# Altium footprint library LQFP-32.PcbLib: 1 footprints
Each footprint in its own frame and in the unit in brackets; x right, y up, seen from the top. Pads: shape width x height; smd on the part's side, far side on the other; paste and mask are expansions set on the pad; w line width, h text height; cw(c..) or ccw(c..) is an arc to the next point about the centre after c.
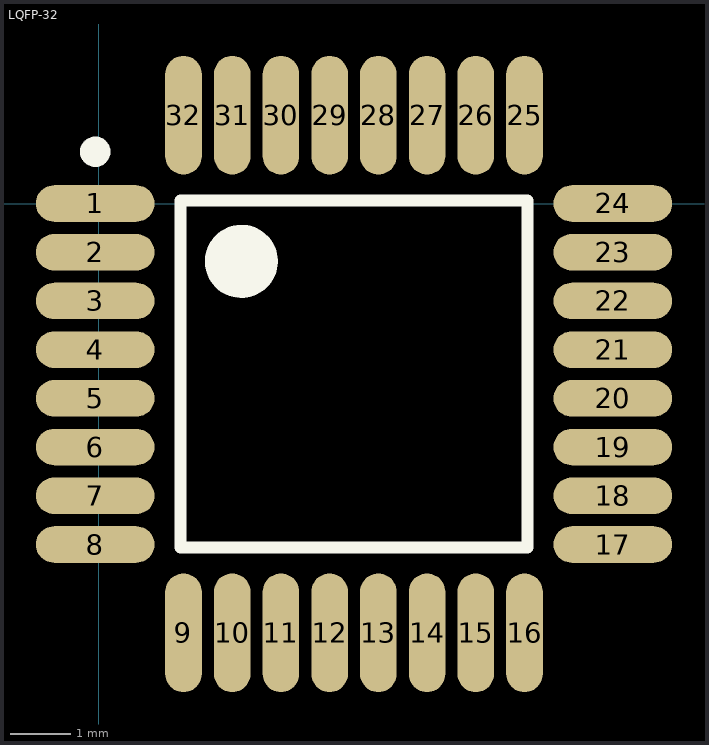
[diagram p0: the footprint, top view; thin cyan lines are the x and y axes]

## LQFP-32 [mm]
pads (32):
  oval 1.95x0.6 smd: 1(-0.059,0.006) 2(-0.059,-0.794) 3(-0.059,-1.594) 4(-0.059,-2.394) 5(-0.059,-3.194) 6(-0.059,-3.994) 7(-0.059,-4.794) 8(-0.059,-5.594) 17(8.441,-5.594) 18(8.441,-4.794) 19(8.441,-3.994) 20(8.441,-3.194) 21(8.441,-2.394) 22(8.441,-1.594) 23(8.441,-0.794) 24(8.441,0.006)
  oval 0.6x1.95 smd: 9(1.391,-7.044) 10(2.191,-7.044) 11(2.991,-7.044) 12(3.791,-7.044) 13(4.591,-7.044) 14(5.391,-7.044) 15(6.191,-7.044) 16(6.991,-7.044) 25(6.991,1.456) 26(6.191,1.456) 27(5.391,1.456) 28(4.591,1.456) 29(3.791,1.456) 30(2.991,1.456) 31(2.191,1.456) 32(1.391,1.456)
Top Overlay:
  circle w0.6: c2.341,-0.944 r0.3
  circle w0.25: c-0.059,0.856 r0.125
  lines w0.2: 1.341,-5.644 7.041,-5.644 7.041,0.056 1.341,0.056 1.341,-5.644
3D body: height 1.45, standoff -0.02, extent -0.348,-7.333 8.731,1.746